# Altium footprint library GY9250.PcbLib: 1 footprints
Each footprint in its own frame and in the unit in brackets; x right, y up, seen from the top. Pads: shape width x height; smd on the part's side, far side on the other; paste and mask are expansions set on the pad; w line width, h text height; cw(c..) or ccw(c..) is an arc to the next point about the centre after c.
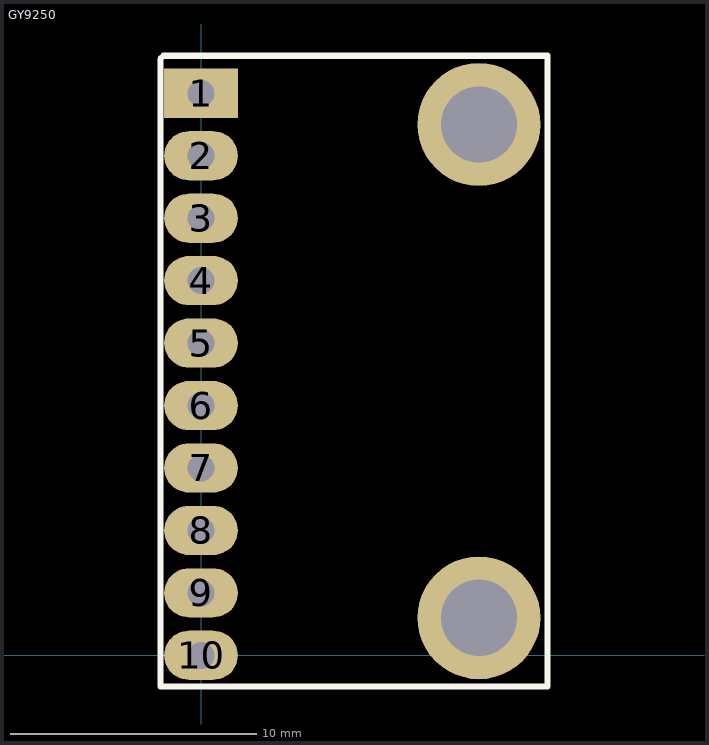
[diagram p0: the footprint, top view; thin cyan lines are the x and y axes]

## GY9250 [mm]
pads (12):
  rect 3x2 hole 1.1: 1(0,22.86)
  oval 3x2 hole 1.1: 2(0,20.32) 3(0,17.78) 4(0,15.24) 5(0,12.7) 6(0,10.16) 7(0,7.62) 8(0,5.08) 9(0,2.54) 10(0,0)
  round 5 hole 3.1: ""(11.303,1.524) ""(11.303,21.59)
Top Overlay:
  lines w0.254: -1.651,24.257 -1.524,24.384 ; -1.651,24.257 -1.524,24.384 ; -1.651,24.257 -1.651,-1.27 14.097,-1.27 14.097,24.384 -1.524,24.384
3D body "MPU9255.step": height 5.1, standoff 1.3, extent -1.587,-1.233 14.013,24.367